# Altium schematic symbol library 智能车主板.SchLib: 36 symbols
Pins are listed as number, name and electrical type; pins without a type are passive.

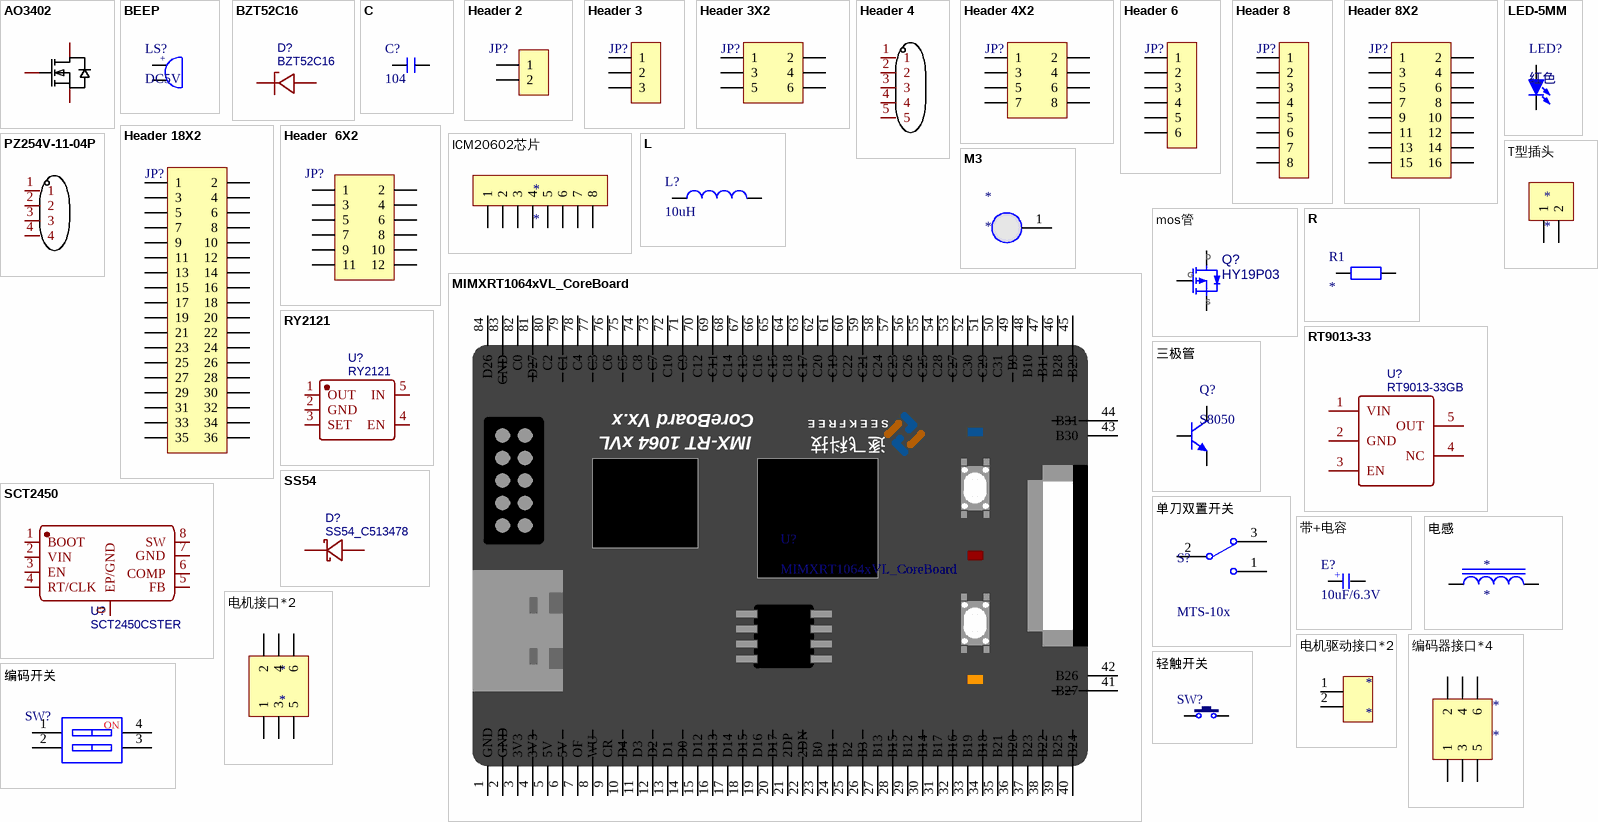
[diagram p0: symbols AO3402 to 轻触开关]

## AO3402
designator Q??  (value not drawn)
Manufacturer: AOS; Symbol: AO3402_C14385; Add into BOM: yes; Type: N沟道; Drain Source Voltage (Vdss): 30V; Continuous Drain Current (Id): 4A; Power Dissipation (Pd): 1.4W; Drain Source On Resistance (RDS(on)@Vgs,Id): 55mΩ@10V,4A; Gate Threshold Voltage (Vgs(th)@Id): 1.4V@250uA; Total Gate Charge (Qg@Vgs): 4.34nC@4.5V; Input Capacitance (Ciss@Vds): 390pF@15V; Name: AO3402; Device: AO3402; LCSC Part Name: N沟道 30V 4A; Supplier Part: C14385; Manufacturer Part: AO3402; Supplier Footprint: SOT-23; JLCPCB Part Class: Extended Part; Datasheet: https://atta.szlcsc.com/upload/public/pdf/source/20171023/C14385_15087455190191052858.pdf; Supplier: LCSC; Convert to PCB: yes; Operating Temperature: -55℃~+150℃@(Tj)
footprint SOT-23_L2.9-W1.3-P1.90-LS2.4-BR
3D model SOT-23-3P_L2.9-W1.3-H1.0-LS2.4-P0.95
pins: 1 G, 2 S, 3 D

## BEEP
designator LS?, comment DC5V
蜂鸣器; 版权归属: 源创客; BOM名称: 蜂鸣器; 学习资源: www.ooocke.com
footprint BEEP 6.5x12x6 (6.5*12*6mm(脚距,直径,高度))
footprint BEEP 5x9x5.5 (5*9*5.5mm(脚距,直径,高度))
footprint BEEP 6.5x12x8.5 (6.5*12*8.5mm(脚距,直径,高度))
footprint BEEP 7.6X12X7.5 (6.5*12*7.5mm(脚距,直径,高度))
footprint BEEP 7.6X12X9.5 (6.5*12*9.5mm(脚距,直径,高度))
footprint BUZZER-7525 (长：7.5mm，宽：7.5mm，高：2.5mm)
pins: 1, 2
text: +

## BZT52C16
designator D?
BOM_Manufacturer: Shandong Jingdao Microelectronics; Contributor: LCSC; BOM_Supplier: LCSC; BOM_Supplier Part: C353554; BOM_Manufacturer Part: BZT52C16; BOM_JLCPCB Part Class: Extended Part; spicePre: D; spiceSymbolName: BZT52C16_C353554
footprint SOD-123_L2.7-W1.6-LS3.7-RD-3
pins: A, K

## C
designator C?, comment 104
无极性贴片电容; 版权归属: 源创客; 材质: X7R; BOM名称: 无极性贴片电容; 学习资源: www.ooocke.com
footprint C 0201_L (无极性贴片电容)
footprint C 0402_L (无极性贴片电容)
footprint C 0603_L (无极性贴片电容)
footprint C 0805_L (无极性贴片电容)
footprint C 1206_L (无极性贴片电容)
footprint C 1210_L (无极性贴片电容)
footprint C 1808_L (无极性贴片电容)
footprint C 1812_L (无极性贴片电容)
footprint C 1825_L (无极性贴片电容)
footprint C 2225_L (无极性贴片电容)
footprint C 0201_M (无极性贴片电容)
footprint C 0402_M (无极性贴片电容)
footprint C 0603_M (无极性贴片电容)
footprint C 0805_M (无极性贴片电容)
footprint C 1206_M (无极性贴片电容)
footprint C 1210_M (无极性贴片电容)
footprint C 1808_M (无极性贴片电容)
footprint C 1812_M (无极性贴片电容)
footprint C 1825_M (无极性贴片电容)
footprint C 2225_M (无极性贴片电容)
pins: 1, 2

## Header 2
designator JP?, comment HDR-1X2  (value not drawn)
2P接插件; 版权归属: 源创客; BOM名称: 2P接插件; 学习资源: www.ooocke.com
footprint KF128-3.81-2P (螺钉式接线端子，脚距3.81mm)
pins: 1, 2

## Header 3
designator JP?, comment HDR-1X3  (value not drawn)
3P接插件; 版权归属: 封装库来自淘宝 ID：黄晶宝石; BOM名称: 3P接插件; 学习资源: https://shop463601444.taobao.com
footprint XH2.54-WI-3P (接插件，3P)
footprint XH2.54-LI-3P (接插件，3P)
footprint HDR2.54-LI-3P (排针，3脚)
footprint HDR2.54-M-LI-3P (排母，3脚)
footprint HDR2.54-WI-3P (弯脚排针，3脚)
footprint HDR2.54-WS-3P (3P卧式贴片排针2.54)
footprint HDR2.54-Y-LI-3P (圆孔排母，3脚)
footprint HDR2.54-M-WS-3P (3P卧式贴片排母2.54)
footprint KF2510-LI-3P (接插件/2A)
footprint XH2.54-WS-3P (长：12.5mm，宽：8mm，高：6.1mm)
footprint XH2.54-LS-3P (长：12.5mm，宽：6mm，高：8.3mm)
footprint KF2EDGK-2.54-LI-3P (长：9.52mm，宽：8.1mm，高：10.1mm)
footprint KF2EDGK-2.54-WI-3P (长：9.52mm，宽：10.1mm，高：8.1mm)
pins: 1, 2, 3

## Header 3X2
designator JP?, comment Header3X2  (value not drawn)
3*2P接插件; 版权归属: 封装库来自淘宝 ID：黄晶宝石; BOM名称: 3*2P接插件; 学习资源: https://shop463601444.taobao.com
footprint IDC2.54-LI-2x3P (6P简易牛角座)
footprint HDR2.54-LI-2x3P (双排排针，3x2脚)
footprint HDR2.54-M-LS-2x3P (脚距：2.54mm，贴片双排母)
footprint HDR2.54-WI-2x3P (双排弯脚排针，3x2脚)
pins: 1, 2, 3, 4, 5, 6

## Header 4
designator JP?, comment 2.54-1*5  (value not drawn)
Manufacturer: ZHOURI(洲日); Add into BOM: yes; Name: 2.54-1*5; Symbol: 2.54-1*5; Device: 2.54-1*5; LCSC Part Name: 排针 1*5 2.54 11.6MM ROHS; Supplier Part: C5156614; Manufacturer Part: 2.54-1*5; Supplier Footprint: 直插,P=2.54mm; JLCPCB Part Class: Extended Part; Datasheet: https://atta.szlcsc.com/upload/public/pdf/source/20220915/42B20036CA7B45B6662881C642C9CD3C.pdf; Supplier: LCSC; Convert to PCB: yes
footprint HDR-TH_5P-P2.54-V-M
3D model HDR-TH_5P-P2.54-M-LI-1X5P
pins: 1, 2, 3, 4, 5

## Header 4X2
designator JP?  (value not drawn)
4*2P接插件; 版权归属: 封装库来自淘宝 ID：黄晶宝石; BOM名称: 4*2P接插件; 学习资源: https://shop463601444.taobao.com
footprint IDC2.54-LI-2x4P (8P简易牛角座)
footprint HDR2.54-LI-2x4P (双排排针，4x2脚)
footprint HDR2.54-M-LS-2x4P (脚距：2.54mm，贴片双排母)
footprint HDR2.54-WI-2x4P (双排弯脚排针，4x2脚)
pins: 1, 2, 3, 4, 5, 6, 7, 8

## Header 6
designator JP?, comment HDR-1X6  (value not drawn)
6P接插件; 版权归属: 封装库来自淘宝 ID：黄晶宝石; BOM名称: 6P接插件; 学习资源: https://shop463601444.taobao.com
footprint XH2.54-WI-6P (接插件，6P)
footprint XH2.54-LI-6P (接插件，6P)
footprint HDR2.54-LI-6P (排针，6脚)
footprint HDR2.54-M-LI-6P (排母，6脚)
footprint HDR2.54-WI-6P (弯脚排针，6脚)
footprint HDR2.54-WS-6P (6P卧式贴片排针2.54)
footprint HDR2.54-Y-LI-6P (圆孔排母，6脚)
footprint HDR2.54-M-WS-6P (6P卧式贴片排母2.54)
footprint KF2510-LI-6P (接插件/2A)
footprint XH2.54-WS-6P (长：20mm，宽：8mm，高：6.1mm)
footprint XH2.54-LS-6P (长：20mm，宽：6mm，高：8.3mm)
footprint KF2EDGK-2.54-LI-6P (长：17.1mm，宽：8.1mm，高：10.1mm)
footprint KF2EDGK-2.54-WI-6P (长：17.1mm，宽：10.1mm，高：8.1mm)
pins: 1, 2, 3, 4, 5, 6

## Header 8
designator JP?, comment HDR-1X8  (value not drawn)
8P接插件; 版权归属: 封装库来自淘宝 ID：黄晶宝石; BOM名称: 8P接插件; 学习资源: https://shop463601444.taobao.com
footprint XH2.54-WI-8P (接插件，8P)
footprint XH2.54-LI-8P (接插件，8P)
footprint HDR2.54-LI-8P (排针，8脚)
footprint HDR2.54-M-LI-8P (排母，8脚)
footprint HDR2.54-WI-8P (弯脚排针，8脚)
footprint HDR2.54-WS-8P (8P卧式贴片排针2.54)
footprint HDR2.54-Y-LI-8P (圆孔排母，8脚)
footprint HDR2.54-M-WS-8P (8P卧式贴片排母2.54)
footprint KF2510-LI-8P (接插件/2A)
footprint XH2.54-WS-8P (长：25mm，宽：8mm，高：6.1mm)
footprint XH2.54-LS-8P (长：25mm，宽：6mm，高：8.3mm)
footprint KF2EDGK-2.54-LI-8P (长：22.22mm，宽：8.1mm，高：10.1mm)
footprint KF2EDGK-2.54-WI-8P (长：22.22mm，宽：10.1mm，高：8.1mm)
pins: 1, 2, 3, 4, 5, 6, 7, 8

## Header 8X2
designator JP?  (value not drawn)
8*2P接插件; 版权归属: 封装库来自淘宝 ID：黄晶宝石; BOM名称: 8*2P接插件; 学习资源: https://shop463601444.taobao.com
footprint IDC2.54-LI-2x8P (16P简易牛角座)
footprint HDR2.54-LI-2x8P (双排排针，8x2脚)
footprint HDR2.54-M-LS-2x8P (脚距：2.54mm，贴片双排母)
footprint HDR2.54-WI-2x8P (双排弯脚排针，8x2脚)
pins: 1, 2, 3, 4, 5, 6, 7, 8, 9, 10, 11, 12, 13, 14, 15, 16

## Header 18X2
designator JP?, comment Header 2X11  (value not drawn)
18*2P接插件; 版权归属: 源创客; BOM名称: 18*2P接插件; 学习资源: www.ooocke.com
footprint PHD2.0-LI-2x18P (36脚，长：38mm，宽：5mm，高：6.5mm)
pins: 1, 2, 3, 4, 5, 6, 7, 8, 9, 10, 11, 12, 13, 14, 15, 16, 17, 18, 19, 20, 21, 22, 23, 24, 25, 26, 27, 28, 29, 30, 31, 32, 33, 34, 35, 36

## Header  6X2
designator JP?, comment Header 6X2  (value not drawn)
6*2P接插件; 版权归属: 封装库来自淘宝 ID：黄晶宝石; BOM名称: 6*2P接插件; 学习资源: https://shop463601444.taobao.com
footprint IDC2.54-LI-2x6P (12P简易牛角座)
footprint HDR2.54-LI-2x6P (双排排针，6x2脚)
footprint HDR2.54-M-LS-2x6P (脚距：2.54mm，贴片双排母)
footprint HDR2.54-WI-2x6P (双排弯脚排针，6x2脚)
pins: 1, 2, 3, 4, 5, 6, 7, 8, 9, 10, 11, 12

## ICM20602芯片
designator *
pins: 1, 2, 3, 4, 5, 6, 7, 8

## L
designator L?, comment 10uH
小功率贴片电感; 版权归属: 源创客; BOM名称: 小功率贴片电感; 学习资源: www.ooocke.com
footprint L 0402_L (小功率贴片电感)
footprint L 0603_L (小功率贴片电感)
footprint L 0805_L (小功率贴片电感)
footprint L 1206_L (小功率贴片电感)
footprint L 1210_L (小功率贴片电感)
footprint L 1806_L (小功率贴片电感)
footprint L 1812_L (小功率贴片电感)
footprint L 0402_M (小功率贴片电感)
footprint L 0603_M (小功率贴片电感)
footprint L 0805_M (小功率贴片电感)
footprint L 1206_M (小功率贴片电感)
footprint L 1210_M (小功率贴片电感)
footprint L 1806_M (小功率贴片电感)
footprint L 1812_M (小功率贴片电感)
pins: 1, 2

## LED-5MM
designator LED?, comment 红色
5mm插件LED; 版权归属: 源创客; BOM名称: 5mm插件LED; 学习资源: www.ooocke.com
footprint LED 5MM-B (蓝色5mm直插LED)
footprint LED 5MM-G (绿色5mm直插LED)
footprint LED 5MM-R (红色5mm直插LED)
footprint LED 5MM-Y (黄色5mm直插LED)
footprint LED 5MM-W (白色5mm直插LED)
footprint LED 5MM-YC (橙色5mm直插LED)
pins: 1 A, 2 K

## M3
designator *
铜柱孔; 版权归属: 源创客; BOM名称: 铜柱孔; 学习资源: www.ooocke.com
footprint M3 140X350 (M3螺丝孔，孔140Mil，焊盘350Mil)
footprint M3 125X300 (M3螺丝孔，孔125Mil，焊盘300Mil)
footprint M3 125X200 (M3螺丝孔，孔125Mil，焊盘200Mil)
pins: 1 3

## MIMXRT1064xVL_CoreBoard
designator U?
逐飞科技i.MX RT1064核心板整体原理，可直接使用
footprint MIMXRT1064xVL_CoreBoard (逐飞科技i.MX RT1064核心板整体封装，可直接使用)
pins: 1 GND, 2 GND, 3 3V3, 4 3V3, 5 5V, 6 5V, 7 OF, 8 WU, 9 CR, 10 D4, 11 D3, 12 D2, 13 D1, 14 D0, 15 D12, 16 D13, 17 D14, 18 D15, 19 D16, 20 D17, 21 2DP, 22 2DN, 23 B0, 24 B1, 25 B2, 26 B3, 27 B13, 28 B15, 29 B12, 30 B14, 31 B17, 32 B16, 33 B19, 34 B18, 35 B21, 36 B20, 37 B23, 38 B22, 39 B25, 40 B24, 41 B27, 42 B26, 43 B30, 44 B31, 45 B29, 46 B28, 47 B11, 48 B10, 49 B9, 50 C31, 51 C29, 52 C30, 53 C27, 54 C28, 55 C25, 56 C26, 57 C23, 58 C24, 59 C21, 60 C22, 61 C19, 62 C20, 63 C17, 64 C18, 65 C15, 66 C16, 67 C13, 68 C14, 69 C11, 70 C12, 71 C9, 72 C10, 73 C7, 74 C8, 75 C5, 76 C6, 77 C3, 78 C4, 79 C1, 80 C2, 81 D27, 82 C0, 83 GND, 84 D26
text: CoreBoard Vx.x; S E E K F R E E; IMX-RT 1064 xVL; 逐飞科技

## mos管
designator Q?, comment HY19P03
HY19P03 P-Channel MOSFET
footprint TO-252AA (D-PAK, 4-Leads, Body 6.1x6.5mm, Pitch 2.28mm, Lead Span 9.8mm, IPC Low Density)
pins: 1 D, 2 G, 3 S

## PZ254V-11-04P
designator H??  (value not drawn)
Manufacturer: XFCN(兴飞); Symbol: PZ254V-11-04P_C2691448; Add into BOM: yes; Pitch: 2.54mm; Pin Structure: 1x4P; Circluar Pins/Square Pins: 方针; Current Rating (Max): 3A; Voltage Rating (Max): 250V; Name: PZ254V-11-04P; Device: PZ254V-11-04P; LCSC Part Name: 2.54mm 1x4P 直插 方针; Supplier Part: C2691448; Manufacturer Part: PZ254V-11-04P; Supplier Footprint: 插件,P=2.54mm; JLCPCB Part Class: Extended Part; Datasheet: https://atta.szlcsc.com/upload/public/pdf/source/20200309/C492403_F9F19131791D08044AD4F84F8E751A34.pdf; Supplier: LCSC; Convert to PCB: yes; Number of Rows: 单排; Number of Pins: 4P; Row Spacing: -; Mounting Type: 直插; Length of Mating Pin: 6mm; Insulation Height: 2.5mm; Length of End Connection Pin: 3mm; Contact Material: -; Operating Temperature Range: -40℃~+105℃; Color: 黑色
footprint HDR-TH_4P-P2.54-V-M
3D model HDR-TH_4P-P2.54-M-LI-1X4P
pins: 1, 2, 3, 4

## R
designator R1
pins: 1, 2

## RT9013-33
designator U?, comment RT9013-33GB
BOM_Manufacturer: RICHTEK; BOM_Supplier: LCSC; BOM_Manufacturer Part: RT9013-33GB; BOM_Supplier Part: C47773; BOM_JLCPCB Part Class: Extended Part; spicePre: U; spiceSymbolName: RT9013-33GB
footprint SOT-23-5_L3.0-W1.7-P0.95-LS2.8-BR
pins: 1 VIN, 2 GND, 3 EN, 4 NC, 5 OUT

## RY2121
designator U?
BOM_Manufacturer: RYCHiP(蕊源); Contributor: LCSC; BOM_Supplier: LCSC; BOM_Supplier Part: C2887853; BOM_Manufacturer Part: RY2121; spicePre: U; spiceSymbolName: RY2121
footprint SOT-23-5_L3.0-W1.6-P0.95-LS2.8-BL
pins: 1 OUT, 2 GND, 3 SET, 4 EN, 5 IN

## SCT2450
designator U?, comment SCT2450CSTER
BOM_Manufacturer: SCT(芯洲科技); Contributor: LCSC; BOM_Supplier: LCSC; BOM_Supplier Part: C2830168; BOM_Manufacturer Part: SCT2450CSTER; BOM_JLCPCB Part Class: Extended Part; spicePre: U; spiceSymbolName: SCT2450CSTER
footprint ESOP-8_L4.9-W3.9-P1.27-LS6.0-BL-EP
pins: 0 EP/GND, 1 BOOT, 2 VIN, 3 EN, 4 RT/CLK, 5 FB, 6 COMP, 7 GND, 8 SW

## SS54
designator D?, comment SS54_C513478
BOM_Manufacturer: Slkor(SLKORMICRO Elec.); BOM_Manufacturer Part: SS54; Contributor: LCSC; BOM_Supplier: LCSC; BOM_Supplier Part: C513478; BOM_JLCPCB Part Class: Extended Part; spicePre: D; spiceSymbolName: SS54_C513478
footprint SMA_L4.4-W2.8-LS5.4-R-RD
pins: A, K

## T型插头
designator *
pins: 1, 2

## 三极管
designator Q?, comment S8050
三极管NPN型 蜂鸣器  S8050; BOM名称: 高频放大-NPN型; 版权归属: 封装库来自淘宝 ID：黄晶宝石; 属性: 40V 1.5A 1W 100MHZ; 技术支持，联系售后: https://shop463601444.taobao.com
footprint TO92A (92晶体管)
footprint TO92B (92晶体管)
pins: 1 B, 2 E, 3 C

## 单刀双置开关
designator S?, comment MTS-10x
BOM名称: MTS10x系列3脚扭子开关; 版权归属: 源创客; 学习资源: www.ooocke.com
footprint MTS-10x (MTS10系列3脚扭子开关)
pins: 1 3, 2, 3

## 带+电容
designator E?, comment 10uF/6.3V
贴片钽电容; 淘宝ID: 封装库来自淘宝 ID：黄晶宝石; BOM名称: 贴片钽电容; 联系售后: https://shop463601444.taobao.com
footprint CD A(3216) (长3.2mm，宽1.6mm，厚1.6mm)
footprint CD B(3528) (长3.5mm，宽2.8mm，厚1.9mm)
footprint CD C(6032) (长6.0mm，宽3.2mm，厚2.5mm)
footprint CD D(7343) (长7.3mm，宽4.3mm，厚2.8mm)
footprint CD E(7343H) (长7.3mm，宽4.3mm，厚4.0mm)
footprint CD S(2012) (长2.0mm，宽1.25mm，厚1.2mm)
pins: 1 A, 2 K
text: +

## 电感
designator *
pins: 1, 2

## 电机接口*2
designator *
pins: 1, 2, 3, 4, 5, 6

## 电机驱动接口*2
designator *
pins: 1, 2

## 编码器接口*4
designator *
pins: 1, 2, 3, 4, 5, 6

## 编码开关
designator SW?  (value not drawn)
2路编码开关; 版权归属: 源创客; BOM名称: 2路编码开关; 学习资源: www.ooocke.com
footprint CSW DIP-2P (6.6*9.9*7mm)
footprint CSW DIP-2P_G (6.6*9.9*7mm)
footprint CSW1.27 SMD-2P (长：4.14mm，宽：5.4mm，高：2.3mm)
pins: 1, 2, 3, 4
text: NO

## 轻触开关
designator SW?, comment 6x6x5  (value not drawn)
2脚直插6x6轻触开关; BOM名称: 2脚轻触开关; 版权归属: 源创客; 学习资源: www.ooocke.com
footprint TSW DIP-2Pin-6*6*6 (2Pin，6*6*6mm)
footprint TSW DIP-2Pin-6*6*4.3 (2Pin，6*6*4.3mm)
footprint TSW DIP-2Pin-6*6*9 (2Pin，6*6*9mm)
footprint TSW DIP-2Pin-6*6*5 (2Pin，6*6*5mm)
footprint TSW DIP-2Pin-6*6*7 (2Pin，6*6*7mm)
footprint TSW DIP-2Pin-6*6*8 (2Pin，6*6*8mm)
footprint TSW DIP-2Pin-6*6*10 (2Pin，6*6*10mm)
footprint TSW DIP-2Pin-6*6*11 (2Pin，6*6*11mm)
footprint TSW DIP-2Pin-6*6*12 (2Pin，6*6*12mm)
footprint TSW DIP-2Pin-6*6*13 (2Pin，6*6*13mm)
footprint TSW DIP-2Pin-6*6*14 (2Pin，6*6*14mm)
footprint TSW DIP-2Pin-6*6*15 (2Pin，6*6*15mm)
pins: 1, 2